# Altium footprint library Connector Faston Series Pad.PcbLib: 3 footprints
Each footprint in its own frame and in the unit in brackets; x right, y up, seen from the top. Pads: shape width x height; smd on the part's side, far side on the other; paste and mask are expansions set on the pad; w line width, h text height; cw(c..) or ccw(c..) is an arc to the next point about the centre after c.
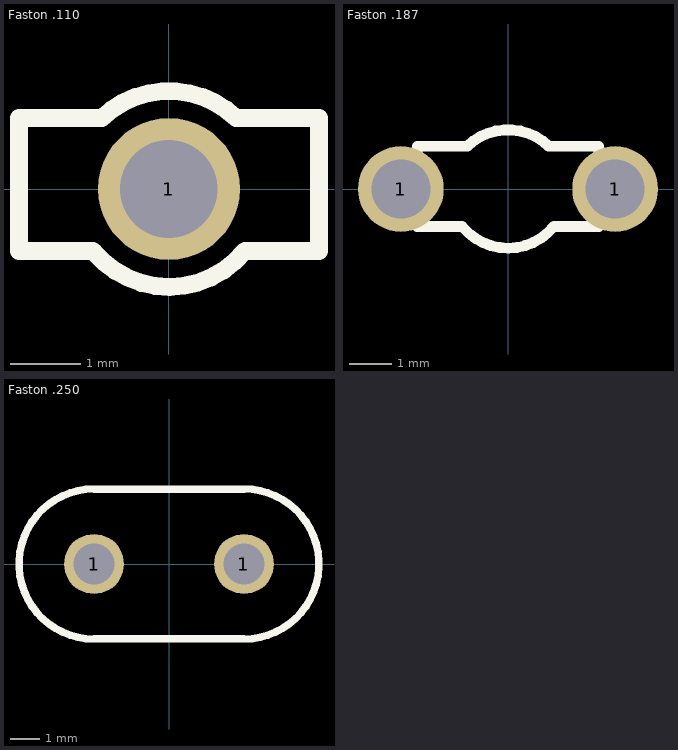
[diagram p0: the footprints below, top view; thin cyan lines are the x and y axes]

## Faston .110 [mil] "Faston .110  Series , Straight, PCB, 2.8 x 0.8mm"
pads (1):
  round 80 hole 55: 1(0,0)
Top Overlay:
  lines w10: -43,-35 -84.6,-35 -84.6,40 -38,40 ; -42.24,-35.57 ccw(c0,0) 42.61,-35.13 ; -38.02,40.06 cw(c0,0) 38.02,40.06 ; 38,40 84.61,40 84.61,-35 43,-35
3D body "FASTON Straight Mount PCB Terminal, 2.8 x 0.51mm.step": height 343, standoff -146.9, extent -84.6,-15.75 84.61,15.75

## Faston .187 [mil] "Faston .187  Series , Straight, PCB, 4.75 x 0.8mm"
pads (2):
  round 80 hole 55: 1(-100,0) 1(100,0)
Top Overlay:
  lines w10: -43,-35 -84.6,-35 -84.6,40 -38,40 ; -42.24,-35.57 ccw(c0,0) 42.61,-35.13 ; -38.02,40.06 cw(c0,0) 38.02,40.06 ; 38,40 84.61,40 84.61,-35 43,-35
3D body "FASTON Straight Mount PCB Terminal, 4.8 x 0.8mm.step": height 368.11, standoff -175.2, extent -124.01,-15 124.02,16.5

## Faston .250 [mil] "Faston .250  Series , Straight, PCB, 6.35 x 0.8mm"
pads (2):
  round 80 hole 55: 1(-100,0) 1(100,0)
Top Overlay:
  lines w10: -100,-100 cw(c-100,0) -100,100 100,100 cw(c100,0) 100,-100 -100,-100
3D body "FASTON Straight Mount PCB Terminal, 6.35 x 0.8mm.step": height 397.48, standoff -153.7, extent -157.48,-15 157.48,16.5